# Altium schematic symbol library LM1117DT-3.3.SchLib: 1 symbol
Pins are listed as number, name and electrical type; pins without a type are passive.

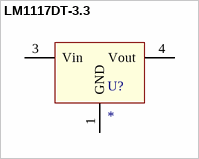
[diagram p0: symbol LM1117DT-3.3]

## LM1117DT-3.3
designator U?
footprint LM1117DT-3.3
pins: 1 GND (power), 3 Vin (power), 4 Vout (power)